# EAGLE library part SIL12 (library lib_paul)
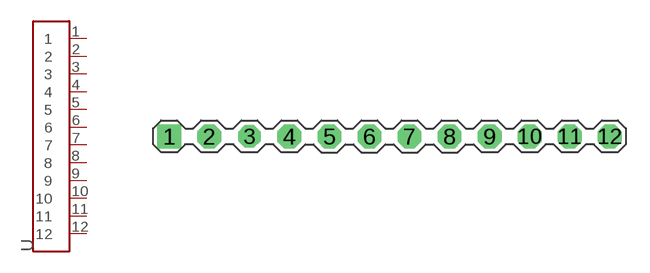
[diagram p7: symbol with the pads of CON12-2.54; footprint CON12-2.54]

Designator prefix -

## SIL12  [CON12-2.54]
1  1
2  2
3  3
4  4
5  5
6  6
7  7
8  8
9  9
10  10
11  11
12  12

## Footprint CON12-2.54 (pad centres in mm)
drill 1 square: 1 -13.97,0
drill 1 octagon: 2 -11.43,0; 4 -6.35,0; 5 -3.81,0; 6 -1.27,0; 7 1.27,0; 8 3.81,0; 9 6.35,0; 10 8.89,0; 11 11.43,0; 12 13.97,0
drill 0.8 pad 1.422 octagon: 3 -8.89,0